# Altium schematic symbol library SMP-MSFD-PCE-1.SchLib: 2 symbols
Pins are listed as number, name and electrical type; pins without a type are passive.

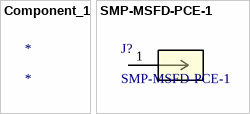
[diagram p0: symbols Component_1 to SMP-MSFD-PCE-1]

## Component_1
designator *

## SMP-MSFD-PCE-1
designator J?
No Description Available; Mfr_Name: Amphenol ICC; Copyright: Copyright (C) 2023 Ultra Librarian. All rights reserved.; Manufacturer_Part_Number: SMP-MSFD-PCE-1; RefDes: RefDes; Type: DEV
footprint CONN_SMP-MSFD-PCE-1_AMP
pins: 1